# Altium schematic symbol library Voltage Regulators SMD.SchLib: 3 symbols
Pins are listed as number, name and electrical type; pins without a type are passive.

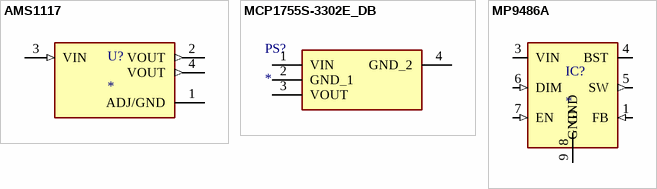
[diagram p0: symbols AMS1117 to MP9486A]

## AMS1117
designator U?
1A LOW DROPOUT VOLTAGE REGULATOR SOT-223; MP: AMS1117; MF: Advanced Monolithic Systems; Price: None; Availability: Not in stock; Package: SOT-223 Seeed Technology; Value: *; SnapEDA_Link: https://www.snapeda.com/parts/AMS1117/Advanced+Monolithic+Systems/view-part/?ref=snap; Check_prices: https://www.snapeda.com/parts/AMS1117/Advanced+Monolithic+Systems/view-part/?ref=eda
footprint AMS1117
pins: 1 ADJ/GND (power), 2 VOUT (out), 3 VIN (in), 4 VOUT (out)

## MCP1755S-3302E_DB
designator PS?
Power Supply; Manufacturer_Name: Microchip; Manufacturer_Part_Number: MCP1755S-3302E/DB; Description: MICROCHIP - MCP1755S-3302E/DB - Fixed LDO Voltage Regulator; Datasheet Link: http://www.farnell.com/datasheets/1697992.pdf; Height: 1.8mm; Mouser Part Number: 579-MCP1755S-3302EDB; Mouser Price/Stock: https://www.mouser.co.uk/ProductDetail/Microchip-Technology/MCP1755S-3302E-DB?qs=OCR3PNzn1cc7Hxpx9CIZgA%3D%3D; Arrow Part Number: MCP1755S-3302E/DB; Arrow Price/Stock: https://www.arrow.com/en/products/mcp1755s-3302edb/microchip-technology?region=nac
footprint MCP1755S-3302E_DB
pins: 1 VIN, 2 GND_1, 3 VOUT, 4 GND_2

## MP9486A
designator IC?
Switching Regulator IC Output 8-SOIC (0.154, 3.90mm Width) Exposed Pad; MF: Monolithic Power; MP: MP9486A; Package: SOIC-8 Monolithic Power; Check_prices: https://www.snapeda.com/parts/MP9486A/Monolithic%20Power%20Systems%20Inc./view-part/2786627/?ref=eda; Value: *; Price: None; Availability: No availability data; SnapEDA_Link: https://www.snapeda.com/parts/MP9486A/Monolithic%20Power%20Systems%20Inc./view-part/2786627/?ref=snap
footprint MP9486
pins: 1 FB (in), 3 VIN (power), 4 BST (io), 5 SW (out), 6 DIM (in), 7 EN (in), 8 GND (power), 9 GND (power)